# EAGLE library part LIS33DE (library Kolja)
Hersteller: STMICROELECTRONICS Farnell Best.Nr.: 1838528 Herst.Bez.: LIS33DE
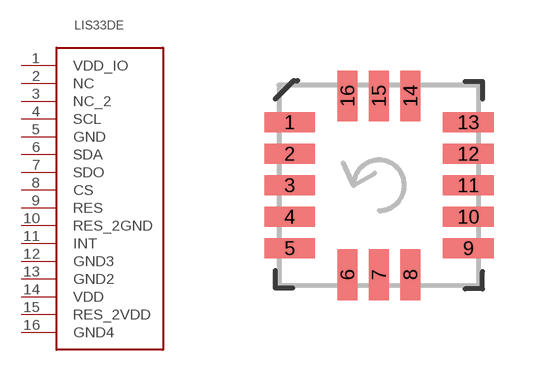
[diagram p1: symbol with the pads of LGA16; footprint LGA16]

Designator prefix -

## LIS33DE  [LGA16]
1  VDD_IO
2  NC
3  NC_2
4  SCL
5  GND
6  SDA
7  SDO
8  CS
9  RES
10  RES_2GND
11  INT
12  GND3
13  GND2
14  VDD
15  RES_2VDD
16  GND4

## Footprint LGA16 (pad centres in mm)
smd 1.27 x 0.508: 1 -2.235,1.575; 2 -2.235,0.787; 3 -2.235,0; 4 -2.235,-0.787; 5 -2.235,-1.575; 9 2.235,-1.575; 10 2.235,-0.787; 11 2.235,0; 12 2.235,0.787; 13 2.235,1.575
smd 0.508 x 1.27: 6 -0.787,-2.235; 7 0,-2.235; 8 0.787,-2.235; 14 0.787,2.235; 15 0,2.235; 16 -0.787,2.235